# Altium footprint library Analog Devices Data Converters Digital-to-Analog Converters.PcbLib: 229 footprints (part 5 of 15)
Each footprint in its own frame and in the unit in brackets; x right, y up, seen from the top. Pads: shape width x height; smd on the part's side, far side on the other; paste and mask are expansions set on the pad; w line width, h text height; cw(c..) or ccw(c..) is an arc to the next point about the centre after c.
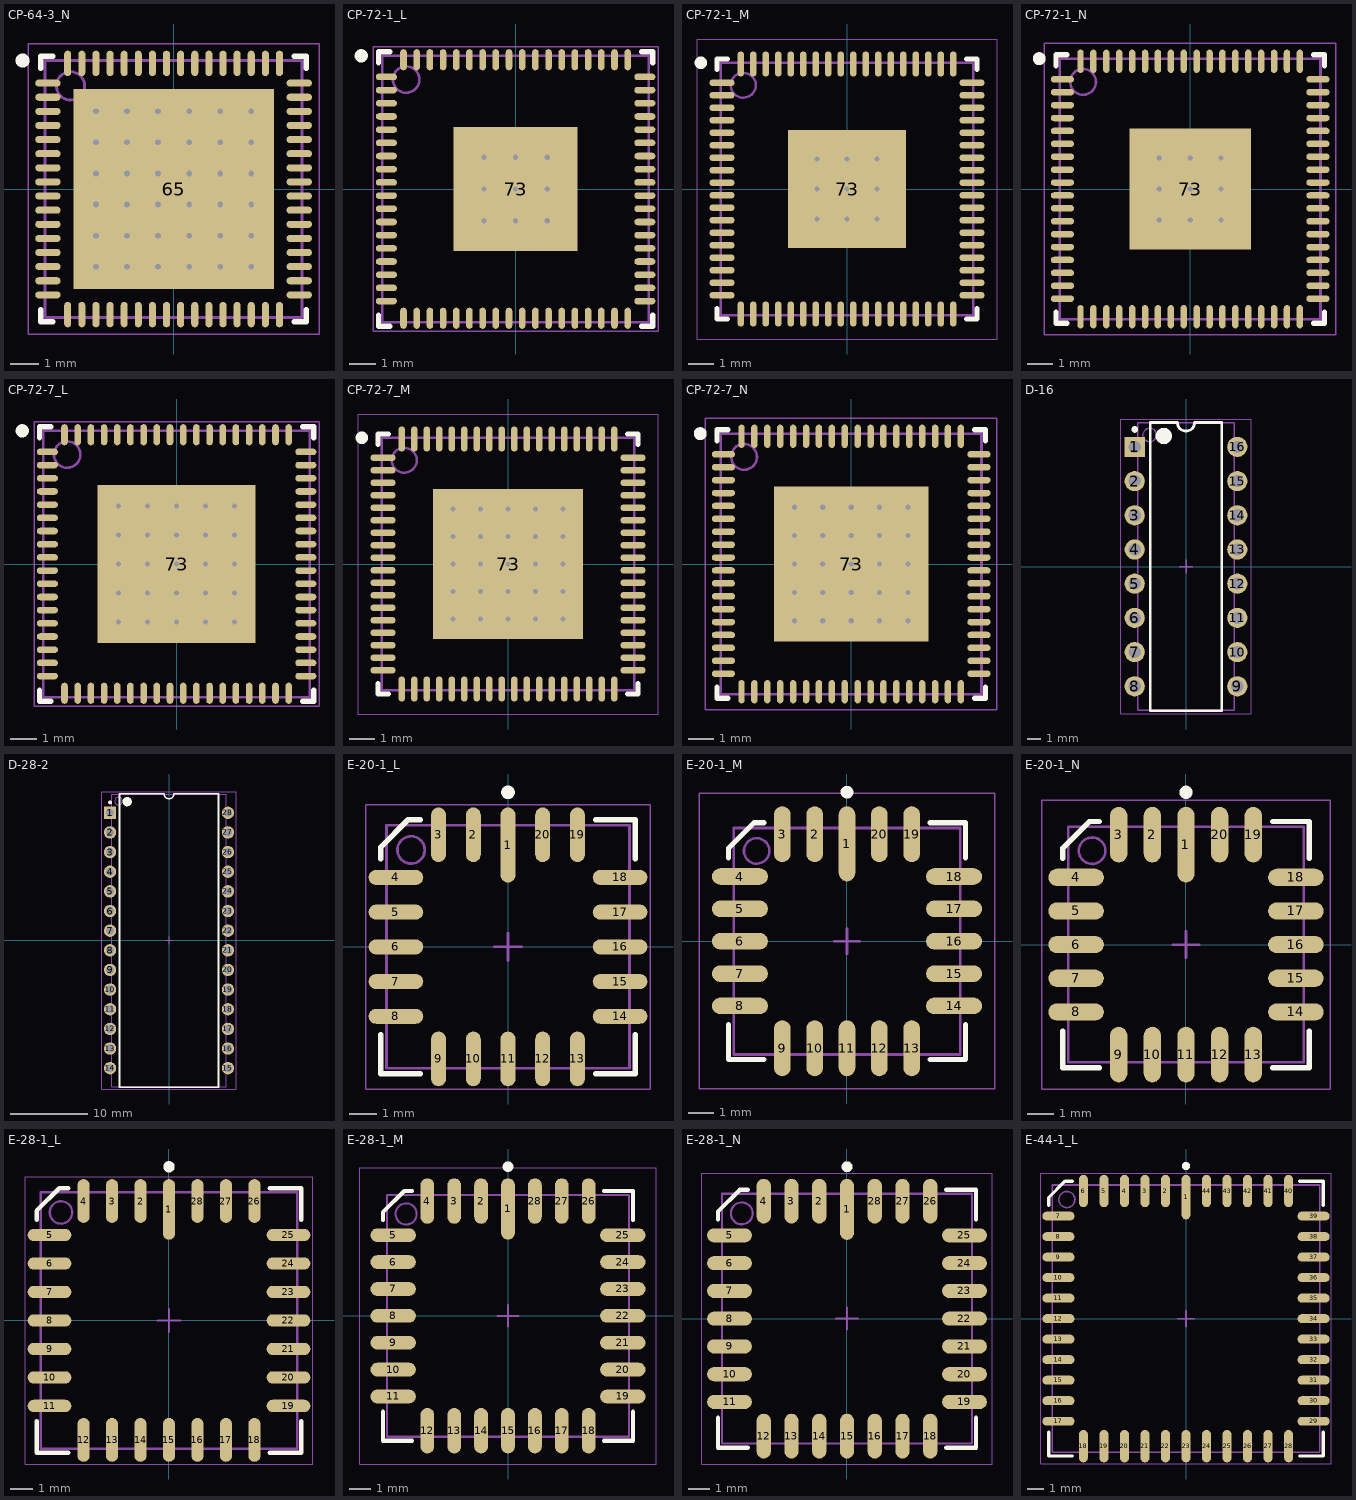
[diagram p4: the footprints below, top view; thin cyan lines are the x and y axes]

## CP-64-3_N [mm] "QFN, 64-Leads, Body 9x9mm, Pitch 0.5mm, Thermal Pad 7.1x7.1mm, IPC Medium Density"
height 1
pads (65):
  oval 0.9x0.25 smd: 1(-4.45,3.75) 2(-4.45,3.25) 3(-4.45,2.75) 4(-4.45,2.25) 5(-4.45,1.75) 6(-4.45,1.25) 7(-4.45,0.75) 8(-4.45,0.25) 9(-4.45,-0.25) 10(-4.45,-0.75) 11(-4.45,-1.25) 12(-4.45,-1.75) 13(-4.45,-2.25) 14(-4.45,-2.75) 15(-4.45,-3.25) 16(-4.45,-3.75) 33(4.45,-3.75) 34(4.45,-3.25) 35(4.45,-2.75) 36(4.45,-2.25) 37(4.45,-1.75) 38(4.45,-1.25) 39(4.45,-0.75) 40(4.45,-0.25) 41(4.45,0.25) 42(4.45,0.75) 43(4.45,1.25) 44(4.45,1.75) 45(4.45,2.25) 46(4.45,2.75) 47(4.45,3.25) 48(4.45,3.75)
  oval 0.25x0.9 smd: 17(-3.75,-4.45) 18(-3.25,-4.45) 19(-2.75,-4.45) 20(-2.25,-4.45) 21(-1.75,-4.45) 22(-1.25,-4.45) 23(-0.75,-4.45) 24(-0.25,-4.45) 25(0.25,-4.45) 26(0.75,-4.45) 27(1.25,-4.45) 28(1.75,-4.45) 29(2.25,-4.45) 30(2.75,-4.45) 31(3.25,-4.45) 32(3.75,-4.45) 49(3.75,4.45) 50(3.25,4.45) 51(2.75,4.45) 52(2.25,4.45) 53(1.75,4.45) 54(1.25,4.45) 55(0.75,4.45) 56(0.25,4.45) 57(-0.25,4.45) 58(-0.75,4.45) 59(-1.25,4.45) 60(-1.75,4.45) 61(-2.25,4.45) 62(-2.75,4.45) 63(-3.25,4.45) 64(-3.75,4.45)
  rect 7.1x7.1 smd: 65(0,0)
via -2.75,2.75 diameter 0.5 hole 0.2
via -1.65,2.75 diameter 0.5 hole 0.2
via -0.55,2.75 diameter 0.5 hole 0.2
via 0.55,2.75 diameter 0.5 hole 0.2
via 1.65,2.75 diameter 0.5 hole 0.2
via 2.75,2.75 diameter 0.5 hole 0.2
via -2.75,1.65 diameter 0.5 hole 0.2
via -1.65,1.65 diameter 0.5 hole 0.2
via -0.55,1.65 diameter 0.5 hole 0.2
via 0.55,1.65 diameter 0.5 hole 0.2
via 1.65,1.65 diameter 0.5 hole 0.2
via 2.75,1.65 diameter 0.5 hole 0.2
via -2.75,0.55 diameter 0.5 hole 0.2
via -1.65,0.55 diameter 0.5 hole 0.2
via -0.55,0.55 diameter 0.5 hole 0.2
via 0.55,0.55 diameter 0.5 hole 0.2
via 1.65,0.55 diameter 0.5 hole 0.2
via 2.75,0.55 diameter 0.5 hole 0.2
via -2.75,-0.55 diameter 0.5 hole 0.2
via -1.65,-0.55 diameter 0.5 hole 0.2
via -0.55,-0.55 diameter 0.5 hole 0.2
via 0.55,-0.55 diameter 0.5 hole 0.2
via 1.65,-0.55 diameter 0.5 hole 0.2
via 2.75,-0.55 diameter 0.5 hole 0.2
via -2.75,-1.65 diameter 0.5 hole 0.2
via -1.65,-1.65 diameter 0.5 hole 0.2
via -0.55,-1.65 diameter 0.5 hole 0.2
via 0.55,-1.65 diameter 0.5 hole 0.2
via 1.65,-1.65 diameter 0.5 hole 0.2
via 2.75,-1.65 diameter 0.5 hole 0.2
via -2.75,-2.75 diameter 0.5 hole 0.2
via -1.65,-2.75 diameter 0.5 hole 0.2
via -0.55,-2.75 diameter 0.5 hole 0.2
via 0.55,-2.75 diameter 0.5 hole 0.2
via 1.65,-2.75 diameter 0.5 hole 0.2
via 2.75,-2.75 diameter 0.5 hole 0.2
Top Overlay:
  circle w0.25: c-5.35,4.55 r0.125
  lines w0.2: -4.7,-4.275 -4.7,-4.7 -4.275,-4.7 ; -4.7,4.275 -4.7,4.7 -4.275,4.7 ; 4.275,-4.7 4.7,-4.7 4.7,-4.275 ; 4.275,4.7 4.7,4.7 4.7,4.275
Mechanical 13:
  circle w0.1: c-3.65,3.65 r0.5
  lines w0.1: -4.55,-4.55 -4.55,4.55 4.55,4.55 4.55,-4.55 -4.55,-4.55
Mechanical 15:
  lines w0.05: -5.15,-5.15 -5.15,5.15 5.15,5.15 5.15,-5.15 -5.15,-5.15
  lines w0.1: -0.5,0 0.5,0 ; 0,-0.5 0,0.5
3D body: height 1, standoff 0, extent -4.55,-4.55 4.55,4.55

## CP-72-1_L [mm] "QFN, 72-Leads, Body 10x10mm, Pitch 0.5mm, Thermal Pad 4.7x4.7mm, IPC High Density"
height 1
pads (73):
  oval 0.8x0.25 smd: 1(-4.9,4.25) 2(-4.9,3.75) 3(-4.9,3.25) 4(-4.9,2.75) 5(-4.9,2.25) 6(-4.9,1.75) 7(-4.9,1.25) 8(-4.9,0.75) 9(-4.9,0.25) 10(-4.9,-0.25) 11(-4.9,-0.75) 12(-4.9,-1.25) 13(-4.9,-1.75) 14(-4.9,-2.25) 15(-4.9,-2.75) 16(-4.9,-3.25) 17(-4.9,-3.75) 18(-4.9,-4.25) 37(4.9,-4.25) 38(4.9,-3.75) 39(4.9,-3.25) 40(4.9,-2.75) 41(4.9,-2.25) 42(4.9,-1.75) 43(4.9,-1.25) 44(4.9,-0.75) 45(4.9,-0.25) 46(4.9,0.25) 47(4.9,0.75) 48(4.9,1.25) 49(4.9,1.75) 50(4.9,2.25) 51(4.9,2.75) 52(4.9,3.25) 53(4.9,3.75) 54(4.9,4.25)
  oval 0.25x0.8 smd: 19(-4.25,-4.9) 20(-3.75,-4.9) 21(-3.25,-4.9) 22(-2.75,-4.9) 23(-2.25,-4.9) 24(-1.75,-4.9) 25(-1.25,-4.9) 26(-0.75,-4.9) 27(-0.25,-4.9) 28(0.25,-4.9) 29(0.75,-4.9) 30(1.25,-4.9) 31(1.75,-4.9) 32(2.25,-4.9) 33(2.75,-4.9) 34(3.25,-4.9) 35(3.75,-4.9) 36(4.25,-4.9) 55(4.25,4.9) 56(3.75,4.9) 57(3.25,4.9) 58(2.75,4.9) 59(2.25,4.9) 60(1.75,4.9) 61(1.25,4.9) 62(0.75,4.9) 63(0.25,4.9) 64(-0.25,4.9) 65(-0.75,4.9) 66(-1.25,4.9) 67(-1.75,4.9) 68(-2.25,4.9) 69(-2.75,4.9) 70(-3.25,4.9) 71(-3.75,4.9) 72(-4.25,4.9)
  rect 4.7x4.7 smd paste-2.35: 73(0,0)
via -1.2,-1.2 diameter 0.5 hole 0.2
via 0,-1.2 diameter 0.5 hole 0.2
via 1.2,-1.2 diameter 0.5 hole 0.2
via -1.2,0 diameter 0.5 hole 0.2
via 0,0 diameter 0.5 hole 0.2
via 1.2,0 diameter 0.5 hole 0.2
via 1.2,1.2 diameter 0.5 hole 0.2
via 0,1.2 diameter 0.5 hole 0.2
via -1.2,1.2 diameter 0.5 hole 0.2
Top Overlay:
  circle w0.25: c-5.85,5.05 r0.125
  lines w0.2: -5.2,-4.775 -5.2,-5.2 -4.775,-5.2 ; -5.2,4.775 -5.2,5.2 -4.775,5.2 ; 4.775,-5.2 5.2,-5.2 5.2,-4.775 ; 4.775,5.2 5.2,5.2 5.2,4.775
Top Paste:
  rectangle: 1.3,1.3 2.3,2.3
  rectangle: 1.3,-2.3 2.3,-1.3
  rectangle: 0.1,-2.3 1.1,-1.3
  rectangle: -1.1,-2.3 -0.1,-1.3
  rectangle: -2.3,-2.3 -1.3,-1.3
  rectangle: 0.1,1.3 1.1,2.3
  rectangle: -1.1,1.3 -0.1,2.3
  rectangle: 1.3,0.1 2.3,1.1
  region: 2.3,-1.1 2.3,-0.1 1.3,-0.1 1.3,-1.1
  rectangle: -2.3,0.1 -1.3,1.1
  region: -1.3,-1.1 -1.3,-0.1 -2.3,-0.1 -2.3,-1.1
  region: -0.1,-1.1 -0.1,-0.1 -1.1,-0.1 -1.1,-1.1
  region: 1.1,-0.1 0.1,-0.1 0.1,-1.1 1.1,-1.1
  region: 1.1,1.1 0.1,1.1 0.1,0.1 1.1,0.1
  rectangle: -2.3,1.3 -1.3,2.3
  rectangle: -1.1,0.1 -0.1,1.1
Mechanical 13:
  circle w0.1: c-4.15,4.15 r0.5
  lines w0.1: -5.05,-5.05 5.05,-5.05 5.05,5.05 -5.05,5.05 -5.05,-5.05
Mechanical 15:
  lines w0.05: -5.4,-5.4 5.4,-5.4 5.4,5.4 -5.4,5.4 -5.4,-5.4
  lines w0.1: -0.5,0 0.5,0 ; 0,-0.5 0,0.5
3D body: height 1, standoff 0, extent -5.05,-5.05 5.05,5.05

## CP-72-1_M [mm] "QFN, 72-Leads, Body 10x10mm, Pitch 0.5mm, Thermal Pad 4.7x4.7mm, IPC Low Density"
height 1
pads (73):
  oval 1x0.25 smd: 1(-5,4.25) 2(-5,3.75) 3(-5,3.25) 4(-5,2.75) 5(-5,2.25) 6(-5,1.75) 7(-5,1.25) 8(-5,0.75) 9(-5,0.25) 10(-5,-0.25) 11(-5,-0.75) 12(-5,-1.25) 13(-5,-1.75) 14(-5,-2.25) 15(-5,-2.75) 16(-5,-3.25) 17(-5,-3.75) 18(-5,-4.25) 37(5,-4.25) 38(5,-3.75) 39(5,-3.25) 40(5,-2.75) 41(5,-2.25) 42(5,-1.75) 43(5,-1.25) 44(5,-0.75) 45(5,-0.25) 46(5,0.25) 47(5,0.75) 48(5,1.25) 49(5,1.75) 50(5,2.25) 51(5,2.75) 52(5,3.25) 53(5,3.75) 54(5,4.25)
  oval 0.25x1 smd: 19(-4.25,-5) 20(-3.75,-5) 21(-3.25,-5) 22(-2.75,-5) 23(-2.25,-5) 24(-1.75,-5) 25(-1.25,-5) 26(-0.75,-5) 27(-0.25,-5) 28(0.25,-5) 29(0.75,-5) 30(1.25,-5) 31(1.75,-5) 32(2.25,-5) 33(2.75,-5) 34(3.25,-5) 35(3.75,-5) 36(4.25,-5) 55(4.25,5) 56(3.75,5) 57(3.25,5) 58(2.75,5) 59(2.25,5) 60(1.75,5) 61(1.25,5) 62(0.75,5) 63(0.25,5) 64(-0.25,5) 65(-0.75,5) 66(-1.25,5) 67(-1.75,5) 68(-2.25,5) 69(-2.75,5) 70(-3.25,5) 71(-3.75,5) 72(-4.25,5)
  rect 4.7x4.7 smd paste-2.35: 73(0,0)
via -1.2,-1.2 diameter 0.5 hole 0.2
via 0,-1.2 diameter 0.5 hole 0.2
via 1.2,-1.2 diameter 0.5 hole 0.2
via -1.2,0 diameter 0.5 hole 0.2
via 0,0 diameter 0.5 hole 0.2
via 1.2,0 diameter 0.5 hole 0.2
via 1.2,1.2 diameter 0.5 hole 0.2
via 0,1.2 diameter 0.5 hole 0.2
via -1.2,1.2 diameter 0.5 hole 0.2
Top Overlay:
  circle w0.25: c-5.85,5.05 r0.125
  lines w0.2: -5.2,-4.775 -5.2,-5.2 -4.775,-5.2 ; -5.2,4.775 -5.2,5.2 -4.775,5.2 ; 4.775,-5.2 5.2,-5.2 5.2,-4.775 ; 4.775,5.2 5.2,5.2 5.2,4.775
Top Paste:
  rectangle: -1.1,0.1 -0.1,1.1
  rectangle: -2.3,1.3 -1.3,2.3
  region: 1.1,1.1 0.1,1.1 0.1,0.1 1.1,0.1
  region: 1.1,-0.1 0.1,-0.1 0.1,-1.1 1.1,-1.1
  region: -0.1,-1.1 -0.1,-0.1 -1.1,-0.1 -1.1,-1.1
  region: -1.3,-1.1 -1.3,-0.1 -2.3,-0.1 -2.3,-1.1
  rectangle: -2.3,0.1 -1.3,1.1
  region: 2.3,-1.1 2.3,-0.1 1.3,-0.1 1.3,-1.1
  rectangle: 1.3,0.1 2.3,1.1
  rectangle: -1.1,1.3 -0.1,2.3
  rectangle: 0.1,1.3 1.1,2.3
  rectangle: -2.3,-2.3 -1.3,-1.3
  rectangle: -1.1,-2.3 -0.1,-1.3
  rectangle: 0.1,-2.3 1.1,-1.3
  rectangle: 1.3,-2.3 2.3,-1.3
  rectangle: 1.3,1.3 2.3,2.3
Mechanical 13:
  circle w0.1: c-4.15,4.15 r0.5
  lines w0.1: -5.05,-5.05 5.05,-5.05 5.05,5.05 -5.05,5.05 -5.05,-5.05
Mechanical 15:
  lines w0.05: -6,-6 6,-6 6,6 -6,6 -6,-6
  lines w0.1: -0.5,0 0.5,0 ; 0,-0.5 0,0.5
3D body: height 1, standoff 0, extent -5.05,-5.05 5.05,5.05

## CP-72-1_N [mm] "QFN, 72-Leads, Body 10x10mm, Pitch 0.5mm, Thermal Pad 4.7x4.7mm, IPC Medium Density"
height 1
pads (73):
  oval 0.9x0.25 smd: 1(-4.95,4.25) 2(-4.95,3.75) 3(-4.95,3.25) 4(-4.95,2.75) 5(-4.95,2.25) 6(-4.95,1.75) 7(-4.95,1.25) 8(-4.95,0.75) 9(-4.95,0.25) 10(-4.95,-0.25) 11(-4.95,-0.75) 12(-4.95,-1.25) 13(-4.95,-1.75) 14(-4.95,-2.25) 15(-4.95,-2.75) 16(-4.95,-3.25) 17(-4.95,-3.75) 18(-4.95,-4.25) 37(4.95,-4.25) 38(4.95,-3.75) 39(4.95,-3.25) 40(4.95,-2.75) 41(4.95,-2.25) 42(4.95,-1.75) 43(4.95,-1.25) 44(4.95,-0.75) 45(4.95,-0.25) 46(4.95,0.25) 47(4.95,0.75) 48(4.95,1.25) 49(4.95,1.75) 50(4.95,2.25) 51(4.95,2.75) 52(4.95,3.25) 53(4.95,3.75) 54(4.95,4.25)
  oval 0.25x0.9 smd: 19(-4.25,-4.95) 20(-3.75,-4.95) 21(-3.25,-4.95) 22(-2.75,-4.95) 23(-2.25,-4.95) 24(-1.75,-4.95) 25(-1.25,-4.95) 26(-0.75,-4.95) 27(-0.25,-4.95) 28(0.25,-4.95) 29(0.75,-4.95) 30(1.25,-4.95) 31(1.75,-4.95) 32(2.25,-4.95) 33(2.75,-4.95) 34(3.25,-4.95) 35(3.75,-4.95) 36(4.25,-4.95) 55(4.25,4.95) 56(3.75,4.95) 57(3.25,4.95) 58(2.75,4.95) 59(2.25,4.95) 60(1.75,4.95) 61(1.25,4.95) 62(0.75,4.95) 63(0.25,4.95) 64(-0.25,4.95) 65(-0.75,4.95) 66(-1.25,4.95) 67(-1.75,4.95) 68(-2.25,4.95) 69(-2.75,4.95) 70(-3.25,4.95) 71(-3.75,4.95) 72(-4.25,4.95)
  rect 4.7x4.7 smd paste-2.35: 73(0,0)
via -1.2,1.2 diameter 0.5 hole 0.2
via 0,1.2 diameter 0.5 hole 0.2
via 1.2,1.2 diameter 0.5 hole 0.2
via 1.2,0 diameter 0.5 hole 0.2
via 0,0 diameter 0.5 hole 0.2
via -1.2,0 diameter 0.5 hole 0.2
via 1.2,-1.2 diameter 0.5 hole 0.2
via 0,-1.2 diameter 0.5 hole 0.2
via -1.2,-1.2 diameter 0.5 hole 0.2
Top Overlay:
  circle w0.25: c-5.85,5.05 r0.125
  lines w0.2: -5.2,-4.775 -5.2,-5.2 -4.775,-5.2 ; -5.2,4.775 -5.2,5.2 -4.775,5.2 ; 4.775,-5.2 5.2,-5.2 5.2,-4.775 ; 4.775,5.2 5.2,5.2 5.2,4.775
Top Paste:
  rectangle: -1.1,0.1 -0.1,1.1
  rectangle: -2.3,1.3 -1.3,2.3
  region: 1.1,1.1 0.1,1.1 0.1,0.1 1.1,0.1
  region: 1.1,-0.1 0.1,-0.1 0.1,-1.1 1.1,-1.1
  region: -0.1,-1.1 -0.1,-0.1 -1.1,-0.1 -1.1,-1.1
  region: -1.3,-1.1 -1.3,-0.1 -2.3,-0.1 -2.3,-1.1
  rectangle: -2.3,0.1 -1.3,1.1
  region: 2.3,-1.1 2.3,-0.1 1.3,-0.1 1.3,-1.1
  rectangle: 1.3,0.1 2.3,1.1
  rectangle: -1.1,1.3 -0.1,2.3
  rectangle: 0.1,1.3 1.1,2.3
  rectangle: -2.3,-2.3 -1.3,-1.3
  rectangle: -1.1,-2.3 -0.1,-1.3
  rectangle: 0.1,-2.3 1.1,-1.3
  rectangle: 1.3,-2.3 2.3,-1.3
  rectangle: 1.3,1.3 2.3,2.3
Mechanical 13:
  circle w0.1: c-4.15,4.15 r0.5
  lines w0.1: -5.05,-5.05 -5.05,5.05 5.05,5.05 5.05,-5.05 -5.05,-5.05
Mechanical 15:
  lines w0.05: -5.65,-5.65 -5.65,5.65 5.65,5.65 5.65,-5.65 -5.65,-5.65
  lines w0.1: -0.5,0 0.5,0 ; 0,-0.5 0,0.5
3D body: height 1, standoff 0, extent -5.05,-5.05 5.05,5.05

## CP-72-7_L [mm] "QFN, 72-Leads, Body 10x10mm, Pitch 0.5mm, Thermal Pad 6x6mm, IPC High Density"
height 1
pads (73):
  oval 0.8x0.25 smd: 1(-4.9,4.25) 2(-4.9,3.75) 3(-4.9,3.25) 4(-4.9,2.75) 5(-4.9,2.25) 6(-4.9,1.75) 7(-4.9,1.25) 8(-4.9,0.75) 9(-4.9,0.25) 10(-4.9,-0.25) 11(-4.9,-0.75) 12(-4.9,-1.25) 13(-4.9,-1.75) 14(-4.9,-2.25) 15(-4.9,-2.75) 16(-4.9,-3.25) 17(-4.9,-3.75) 18(-4.9,-4.25) 37(4.9,-4.25) 38(4.9,-3.75) 39(4.9,-3.25) 40(4.9,-2.75) 41(4.9,-2.25) 42(4.9,-1.75) 43(4.9,-1.25) 44(4.9,-0.75) 45(4.9,-0.25) 46(4.9,0.25) 47(4.9,0.75) 48(4.9,1.25) 49(4.9,1.75) 50(4.9,2.25) 51(4.9,2.75) 52(4.9,3.25) 53(4.9,3.75) 54(4.9,4.25)
  oval 0.25x0.8 smd: 19(-4.25,-4.9) 20(-3.75,-4.9) 21(-3.25,-4.9) 22(-2.75,-4.9) 23(-2.25,-4.9) 24(-1.75,-4.9) 25(-1.25,-4.9) 26(-0.75,-4.9) 27(-0.25,-4.9) 28(0.25,-4.9) 29(0.75,-4.9) 30(1.25,-4.9) 31(1.75,-4.9) 32(2.25,-4.9) 33(2.75,-4.9) 34(3.25,-4.9) 35(3.75,-4.9) 36(4.25,-4.9) 55(4.25,4.9) 56(3.75,4.9) 57(3.25,4.9) 58(2.75,4.9) 59(2.25,4.9) 60(1.75,4.9) 61(1.25,4.9) 62(0.75,4.9) 63(0.25,4.9) 64(-0.25,4.9) 65(-0.75,4.9) 66(-1.25,4.9) 67(-1.75,4.9) 68(-2.25,4.9) 69(-2.75,4.9) 70(-3.25,4.9) 71(-3.75,4.9) 72(-4.25,4.9)
  rect 6x6 smd: 73(0,0)
via 2.2,-2.2 diameter 0.5 hole 0.2
via 1.1,-2.2 diameter 0.5 hole 0.2
via 0,-2.2 diameter 0.5 hole 0.2
via -1.1,-2.2 diameter 0.5 hole 0.2
via -2.2,-2.2 diameter 0.5 hole 0.2
via 2.2,-1.1 diameter 0.5 hole 0.2
via 1.1,-1.1 diameter 0.5 hole 0.2
via 0,-1.1 diameter 0.5 hole 0.2
via -1.1,-1.1 diameter 0.5 hole 0.2
via -2.2,-1.1 diameter 0.5 hole 0.2
via 2.2,0 diameter 0.5 hole 0.2
via 1.1,0 diameter 0.5 hole 0.2
via 0,0 diameter 0.5 hole 0.2
via -1.1,0 diameter 0.5 hole 0.2
via -2.2,0 diameter 0.5 hole 0.2
via 2.2,1.1 diameter 0.5 hole 0.2
via 1.1,1.1 diameter 0.5 hole 0.2
via 0,1.1 diameter 0.5 hole 0.2
via -1.1,1.1 diameter 0.5 hole 0.2
via -2.2,1.1 diameter 0.5 hole 0.2
via 2.2,2.2 diameter 0.5 hole 0.2
via 1.1,2.2 diameter 0.5 hole 0.2
via 0,2.2 diameter 0.5 hole 0.2
via -1.1,2.2 diameter 0.5 hole 0.2
via -2.2,2.2 diameter 0.5 hole 0.2
Top Overlay:
  circle w0.25: c-5.85,5.05 r0.125
  lines w0.2: -5.2,-4.775 -5.2,-5.2 -4.775,-5.2 ; -5.2,4.775 -5.2,5.2 -4.775,5.2 ; 4.775,-5.2 5.2,-5.2 5.2,-4.775 ; 4.775,5.2 5.2,5.2 5.2,4.775
Mechanical 13:
  circle w0.1: c-4.15,4.15 r0.5
  lines w0.1: -5.05,-5.05 5.05,-5.05 5.05,5.05 -5.05,5.05 -5.05,-5.05
Mechanical 15:
  lines w0.05: -5.4,-5.4 5.4,-5.4 5.4,5.4 -5.4,5.4 -5.4,-5.4
  lines w0.1: -0.5,0 0.5,0 ; 0,-0.5 0,0.5
3D body: height 1, standoff 0, extent -5.05,-5.05 5.05,5.05

## CP-72-7_M [mm] "QFN, 72-Leads, Body 10x10mm, Pitch 0.5mm, Thermal Pad 6x6mm, IPC Low Density"
height 1
pads (73):
  oval 1x0.25 smd: 1(-5,4.25) 2(-5,3.75) 3(-5,3.25) 4(-5,2.75) 5(-5,2.25) 6(-5,1.75) 7(-5,1.25) 8(-5,0.75) 9(-5,0.25) 10(-5,-0.25) 11(-5,-0.75) 12(-5,-1.25) 13(-5,-1.75) 14(-5,-2.25) 15(-5,-2.75) 16(-5,-3.25) 17(-5,-3.75) 18(-5,-4.25) 37(5,-4.25) 38(5,-3.75) 39(5,-3.25) 40(5,-2.75) 41(5,-2.25) 42(5,-1.75) 43(5,-1.25) 44(5,-0.75) 45(5,-0.25) 46(5,0.25) 47(5,0.75) 48(5,1.25) 49(5,1.75) 50(5,2.25) 51(5,2.75) 52(5,3.25) 53(5,3.75) 54(5,4.25)
  oval 0.25x1 smd: 19(-4.25,-5) 20(-3.75,-5) 21(-3.25,-5) 22(-2.75,-5) 23(-2.25,-5) 24(-1.75,-5) 25(-1.25,-5) 26(-0.75,-5) 27(-0.25,-5) 28(0.25,-5) 29(0.75,-5) 30(1.25,-5) 31(1.75,-5) 32(2.25,-5) 33(2.75,-5) 34(3.25,-5) 35(3.75,-5) 36(4.25,-5) 55(4.25,5) 56(3.75,5) 57(3.25,5) 58(2.75,5) 59(2.25,5) 60(1.75,5) 61(1.25,5) 62(0.75,5) 63(0.25,5) 64(-0.25,5) 65(-0.75,5) 66(-1.25,5) 67(-1.75,5) 68(-2.25,5) 69(-2.75,5) 70(-3.25,5) 71(-3.75,5) 72(-4.25,5)
  rect 6x6 smd: 73(0,0)
via -2.2,2.2 diameter 0.5 hole 0.2
via -1.1,2.2 diameter 0.5 hole 0.2
via 0,2.2 diameter 0.5 hole 0.2
via 1.1,2.2 diameter 0.5 hole 0.2
via 2.2,2.2 diameter 0.5 hole 0.2
via -2.2,1.1 diameter 0.5 hole 0.2
via -1.1,1.1 diameter 0.5 hole 0.2
via 0,1.1 diameter 0.5 hole 0.2
via 1.1,1.1 diameter 0.5 hole 0.2
via 2.2,1.1 diameter 0.5 hole 0.2
via -2.2,0 diameter 0.5 hole 0.2
via -1.1,0 diameter 0.5 hole 0.2
via 0,0 diameter 0.5 hole 0.2
via 1.1,0 diameter 0.5 hole 0.2
via 2.2,0 diameter 0.5 hole 0.2
via -2.2,-1.1 diameter 0.5 hole 0.2
via -1.1,-1.1 diameter 0.5 hole 0.2
via 0,-1.1 diameter 0.5 hole 0.2
via 1.1,-1.1 diameter 0.5 hole 0.2
via 2.2,-1.1 diameter 0.5 hole 0.2
via -2.2,-2.2 diameter 0.5 hole 0.2
via -1.1,-2.2 diameter 0.5 hole 0.2
via 0,-2.2 diameter 0.5 hole 0.2
via 1.1,-2.2 diameter 0.5 hole 0.2
via 2.2,-2.2 diameter 0.5 hole 0.2
Top Overlay:
  circle w0.25: c-5.85,5.05 r0.125
  lines w0.2: -5.2,-4.775 -5.2,-5.2 -4.775,-5.2 ; -5.2,4.775 -5.2,5.2 -4.775,5.2 ; 4.775,-5.2 5.2,-5.2 5.2,-4.775 ; 4.775,5.2 5.2,5.2 5.2,4.775
Mechanical 13:
  circle w0.1: c-4.15,4.15 r0.5
  lines w0.1: -5.05,-5.05 -5.05,5.05 5.05,5.05 5.05,-5.05 -5.05,-5.05
Mechanical 15:
  lines w0.05: -6,-6 -6,6 6,6 6,-6 -6,-6
  lines w0.1: -0.5,0 0.5,0 ; 0,-0.5 0,0.5
3D body: height 1, standoff 0, extent -5.05,-5.05 5.05,5.05

## CP-72-7_N [mm] "QFN, 72-Leads, Body 10x10mm, Pitch 0.5mm, Thermal Pad 6x6mm, IPC Medium Density"
height 1
pads (73):
  oval 0.9x0.25 smd: 1(-4.95,4.25) 2(-4.95,3.75) 3(-4.95,3.25) 4(-4.95,2.75) 5(-4.95,2.25) 6(-4.95,1.75) 7(-4.95,1.25) 8(-4.95,0.75) 9(-4.95,0.25) 10(-4.95,-0.25) 11(-4.95,-0.75) 12(-4.95,-1.25) 13(-4.95,-1.75) 14(-4.95,-2.25) 15(-4.95,-2.75) 16(-4.95,-3.25) 17(-4.95,-3.75) 18(-4.95,-4.25) 37(4.95,-4.25) 38(4.95,-3.75) 39(4.95,-3.25) 40(4.95,-2.75) 41(4.95,-2.25) 42(4.95,-1.75) 43(4.95,-1.25) 44(4.95,-0.75) 45(4.95,-0.25) 46(4.95,0.25) 47(4.95,0.75) 48(4.95,1.25) 49(4.95,1.75) 50(4.95,2.25) 51(4.95,2.75) 52(4.95,3.25) 53(4.95,3.75) 54(4.95,4.25)
  oval 0.25x0.9 smd: 19(-4.25,-4.95) 20(-3.75,-4.95) 21(-3.25,-4.95) 22(-2.75,-4.95) 23(-2.25,-4.95) 24(-1.75,-4.95) 25(-1.25,-4.95) 26(-0.75,-4.95) 27(-0.25,-4.95) 28(0.25,-4.95) 29(0.75,-4.95) 30(1.25,-4.95) 31(1.75,-4.95) 32(2.25,-4.95) 33(2.75,-4.95) 34(3.25,-4.95) 35(3.75,-4.95) 36(4.25,-4.95) 55(4.25,4.95) 56(3.75,4.95) 57(3.25,4.95) 58(2.75,4.95) 59(2.25,4.95) 60(1.75,4.95) 61(1.25,4.95) 62(0.75,4.95) 63(0.25,4.95) 64(-0.25,4.95) 65(-0.75,4.95) 66(-1.25,4.95) 67(-1.75,4.95) 68(-2.25,4.95) 69(-2.75,4.95) 70(-3.25,4.95) 71(-3.75,4.95) 72(-4.25,4.95)
  rect 6x6 smd: 73(0,0)
via -2.2,2.2 diameter 0.5 hole 0.2
via -1.1,2.2 diameter 0.5 hole 0.2
via 0,2.2 diameter 0.5 hole 0.2
via 1.1,2.2 diameter 0.5 hole 0.2
via 2.2,2.2 diameter 0.5 hole 0.2
via -2.2,1.1 diameter 0.5 hole 0.2
via -1.1,1.1 diameter 0.5 hole 0.2
via 0,1.1 diameter 0.5 hole 0.2
via 1.1,1.1 diameter 0.5 hole 0.2
via 2.2,1.1 diameter 0.5 hole 0.2
via -2.2,0 diameter 0.5 hole 0.2
via -1.1,0 diameter 0.5 hole 0.2
via 0,0 diameter 0.5 hole 0.2
via 1.1,0 diameter 0.5 hole 0.2
via 2.2,0 diameter 0.5 hole 0.2
via -2.2,-1.1 diameter 0.5 hole 0.2
via -1.1,-1.1 diameter 0.5 hole 0.2
via 0,-1.1 diameter 0.5 hole 0.2
via 1.1,-1.1 diameter 0.5 hole 0.2
via 2.2,-1.1 diameter 0.5 hole 0.2
via -2.2,-2.2 diameter 0.5 hole 0.2
via -1.1,-2.2 diameter 0.5 hole 0.2
via 0,-2.2 diameter 0.5 hole 0.2
via 1.1,-2.2 diameter 0.5 hole 0.2
via 2.2,-2.2 diameter 0.5 hole 0.2
Top Overlay:
  circle w0.25: c-5.85,5.05 r0.125
  lines w0.2: -5.2,-4.775 -5.2,-5.2 -4.775,-5.2 ; -5.2,4.775 -5.2,5.2 -4.775,5.2 ; 4.775,-5.2 5.2,-5.2 5.2,-4.775 ; 4.775,5.2 5.2,5.2 5.2,4.775
Mechanical 13:
  circle w0.1: c-4.15,4.15 r0.5
  lines w0.1: -5.05,-5.05 -5.05,5.05 5.05,5.05 5.05,-5.05 -5.05,-5.05
Mechanical 15:
  lines w0.05: -5.65,-5.65 -5.65,5.65 5.65,5.65 5.65,-5.65 -5.65,-5.65
  lines w0.1: -0.5,0 0.5,0 ; 0,-0.5 0,0.5
3D body: height 1, standoff 0, extent -5.05,-5.05 5.05,5.05

## D-16 [mm] "DIP, 16-Leads, Row Spacing 7.62mm, Pitch 2.54mm, Body 21.3x6.7mm"
height 5.08
pads (16):
  rect 1.5x1.5 hole 0.9: 1(-3.81,8.89)
  round 1.5 hole 0.9: 2(-3.81,6.35) 3(-3.81,3.81) 4(-3.81,1.27) 5(-3.81,-1.27) 6(-3.81,-3.81) 7(-3.81,-6.35) 8(-3.81,-8.89) 9(3.81,-8.89) 10(3.81,-6.35) 11(3.81,-3.81) 12(3.81,-1.27) 13(3.81,1.27) 14(3.81,3.81) 15(3.81,6.35) 16(3.81,8.89)
Top Overlay:
  circle w0.6: c-1.65,9.7 r0.3
  circle w0.25: c-3.81,10.19 r0.125
  lines w0.2: -2.65,-10.7 2.65,-10.7 2.65,10.7 0.635,10.7 cw(c0,10.7) -0.635,10.7 -2.65,10.7 -2.65,-10.7
Mechanical 13:
  circle w0.1: c-2.7,9.775 r0.5
  lines w0.1: -3.6,-10.675 3.6,-10.675 3.6,10.675 -3.6,10.675 -3.6,-10.675
Mechanical 15:
  lines w0.05: -4.85,-10.95 4.85,-10.95 4.85,10.95 -4.85,10.95 -4.85,-10.95
  lines w0.1: -0.5,0 0.5,0 ; 0,-0.5 0,0.5
3D body: height 5.08, standoff 0.38, extent -3.6,-10.675 3.6,10.675

## D-28-2 [mm] "DIP, 28-Leads, Row Spacing 15.24mm, Pitch 2.54mm, Body 37.2x14.1mm"
height 3.68
pads (28):
  rect 1.6x1.6 hole 1: 1(-7.62,16.51)
  round 1.6 hole 1: 2(-7.62,13.97) 3(-7.62,11.43) 4(-7.62,8.89) 5(-7.62,6.35) 6(-7.62,3.81) 7(-7.62,1.27) 8(-7.62,-1.27) 9(-7.62,-3.81) 10(-7.62,-6.35) 11(-7.62,-8.89) 12(-7.62,-11.43) 13(-7.62,-13.97) 14(-7.62,-16.51) 15(7.62,-16.51) 16(7.62,-13.97) 17(7.62,-11.43) 18(7.62,-8.89) 19(7.62,-6.35) 20(7.62,-3.81) 21(7.62,-1.27) 22(7.62,1.27) 23(7.62,3.81) 24(7.62,6.35) 25(7.62,8.89) 26(7.62,11.43) 27(7.62,13.97) 28(7.62,16.51)
Top Overlay:
  circle w0.6: c-5.4,17.95 r0.3
  circle w0.25: c-7.62,17.86 r0.125
  lines w0.2: -6.4,-18.95 6.4,-18.95 6.4,18.95 0.635,18.95 cw(c0,18.95) -0.635,18.95 -6.4,18.95 -6.4,-18.95
Mechanical 13:
  circle w0.1: c-6.525,18.025 r0.5
  lines w0.1: -7.425,-18.925 7.425,-18.925 7.425,18.925 -7.425,18.925 -7.425,-18.925
Mechanical 15:
  lines w0.05: -8.7,-19.2 8.7,-19.2 8.7,19.2 -8.7,19.2 -8.7,-19.2
  lines w0.1: -0.5,0 0.5,0 ; 0,-0.5 0,0.5
3D body: height 3.68, standoff 0.38, extent -7.425,-18.925 7.425,18.925

## E-20-1_L [mm] "Leadless Chip Carrier, 20-Leads, Body 8.9x8.9mm, Pitch 1.27mm, IPC High Density"
height 2.54
pads (20):
  oval 0.55x2.75 smd: 1(0,3.725)
  oval 0.55x2 smd: 2(-1.27,4.1) 3(-2.54,4.1) 9(-2.54,-4.1) 10(-1.27,-4.1) 11(0,-4.1) 12(1.27,-4.1) 13(2.54,-4.1) 19(2.54,4.1) 20(1.27,4.1)
  oval 2x0.55 smd: 4(-4.1,2.54) 5(-4.1,1.27) 6(-4.1,0) 7(-4.1,-1.27) 8(-4.1,-2.54) 14(4.1,-2.54) 15(4.1,-1.27) 16(4.1,0) 17(4.1,1.27) 18(4.1,2.54)
Top Overlay:
  circle w0.25: c0,5.65 r0.125
  lines w0.2: -4.65,-3.215 -4.65,-4.65 -3.215,-4.65 ; -4.65,3.215 -4.65,3.65 -3.65,4.65 -3.215,4.65 ; 3.215,-4.65 4.65,-4.65 4.65,-3.215 ; 3.215,4.65 4.65,4.65 4.65,3.215
Mechanical 13:
  circle w0.1: c-3.545,3.545 r0.5
  lines w0.1: -4.445,-4.445 4.445,-4.445 4.445,4.445 -4.445,4.445 -4.445,-4.445
Mechanical 15:
  lines w0.05: -5.2,-5.2 5.2,-5.2 5.2,5.2 -5.2,5.2 -5.2,-5.2
  lines w0.1: -0.5,0 0.5,0 ; 0,-0.5 0,0.5
3D body: height 2.54, standoff 0, extent -4.445,-4.445 4.445,4.445

## E-20-1_M [mm] "Leadless Chip Carrier, 20-Leads, Body 8.9x8.9mm, Pitch 1.27mm, IPC Low Density"
height 2.54
pads (20):
  oval 0.65x2.95 smd: 1(0,3.825)
  oval 0.65x2.2 smd: 2(-1.27,4.2) 3(-2.54,4.2) 9(-2.54,-4.2) 10(-1.27,-4.2) 11(0,-4.2) 12(1.27,-4.2) 13(2.54,-4.2) 19(2.54,4.2) 20(1.27,4.2)
  oval 2.2x0.65 smd: 4(-4.2,2.54) 5(-4.2,1.27) 6(-4.2,0) 7(-4.2,-1.27) 8(-4.2,-2.54) 14(4.2,-2.54) 15(4.2,-1.27) 16(4.2,0) 17(4.2,1.27) 18(4.2,2.54)
Top Overlay:
  circle w0.25: c0,5.85 r0.125
  lines w0.2: -4.65,-3.265 -4.65,-4.65 -3.265,-4.65 ; -4.65,3.265 -4.65,3.65 -3.65,4.65 -3.265,4.65 ; 3.265,-4.65 4.65,-4.65 4.65,-3.265 ; 3.265,4.65 4.65,4.65 4.65,3.265
Mechanical 13:
  circle w0.1: c-3.545,3.545 r0.5
  lines w0.1: -4.445,-4.445 -4.445,4.445 4.445,4.445 4.445,-4.445 -4.445,-4.445
Mechanical 15:
  lines w0.05: -5.8,-5.8 -5.8,5.8 5.8,5.8 5.8,-5.8 -5.8,-5.8
  lines w0.1: -0.5,0 0.5,0 ; 0,-0.5 0,0.5
3D body: height 2.54, standoff 0, extent -4.445,-4.445 4.445,4.445

## E-20-1_N [mm] "Leadless Chip Carrier, 20-Leads, Body 8.9x8.9mm, Pitch 1.27mm, IPC Medium Density"
height 2.54
pads (20):
  oval 0.65x2.85 smd: 1(0,3.775)
  oval 0.65x2.1 smd: 2(-1.27,4.15) 3(-2.54,4.15) 9(-2.54,-4.15) 10(-1.27,-4.15) 11(0,-4.15) 12(1.27,-4.15) 13(2.54,-4.15) 19(2.54,4.15) 20(1.27,4.15)
  oval 2.1x0.65 smd: 4(-4.15,2.54) 5(-4.15,1.27) 6(-4.15,0) 7(-4.15,-1.27) 8(-4.15,-2.54) 14(4.15,-2.54) 15(4.15,-1.27) 16(4.15,0) 17(4.15,1.27) 18(4.15,2.54)
Top Overlay:
  circle w0.25: c0,5.75 r0.125
  lines w0.2: -4.65,-3.265 -4.65,-4.65 -3.265,-4.65 ; -4.65,3.265 -4.65,3.65 -3.65,4.65 -3.265,4.65 ; 3.265,-4.65 4.65,-4.65 4.65,-3.265 ; 3.265,4.65 4.65,4.65 4.65,3.265
Mechanical 13:
  circle w0.1: c-3.545,3.545 r0.5
  lines w0.1: -4.445,-4.445 -4.445,4.445 4.445,4.445 4.445,-4.445 -4.445,-4.445
Mechanical 15:
  lines w0.05: -5.45,-5.45 -5.45,5.45 5.45,5.45 5.45,-5.45 -5.45,-5.45
  lines w0.1: -0.5,0 0.5,0 ; 0,-0.5 0,0.5
3D body: height 2.54, standoff 0, extent -4.445,-4.445 4.445,4.445

## E-28-1_L [mm] "Leadless Chip Carrier, 28-Leads, Body 11.4x11.4mm, Pitch 1.27mm, IPC High Density"
height 2.54
pads (28):
  oval 0.55x2.7 smd: 1(0,4.95)
  oval 0.55x1.95 smd: 2(-1.27,5.325) 3(-2.54,5.325) 4(-3.81,5.325) 12(-3.81,-5.325) 13(-2.54,-5.325) 14(-1.27,-5.325) 15(0,-5.325) 16(1.27,-5.325) 17(2.54,-5.325) 18(3.81,-5.325) 26(3.81,5.325) 27(2.54,5.325) 28(1.27,5.325)
  oval 1.95x0.55 smd: 5(-5.325,3.81) 6(-5.325,2.54) 7(-5.325,1.27) 8(-5.325,0) 9(-5.325,-1.27) 10(-5.325,-2.54) 11(-5.325,-3.81) 19(5.325,-3.81) 20(5.325,-2.54) 21(5.325,-1.27) 22(5.325,0) 23(5.325,1.27) 24(5.325,2.54) 25(5.325,3.81)
Top Overlay:
  circle w0.25: c0,6.85 r0.125
  lines w0.2: -5.9,-4.485 -5.9,-5.9 -4.485,-5.9 ; -5.9,4.485 -5.9,4.9 -4.9,5.9 -4.485,5.9 ; 4.485,-5.9 5.9,-5.9 5.9,-4.485 ; 4.485,5.9 5.9,5.9 5.9,4.485
Mechanical 13:
  circle w0.1: c-4.815,4.815 r0.5
  lines w0.1: -5.715,-5.715 5.715,-5.715 5.715,5.715 -5.715,5.715 -5.715,-5.715
Mechanical 15:
  lines w0.05: -6.4,-6.4 6.4,-6.4 6.4,6.4 -6.4,6.4 -6.4,-6.4
  lines w0.1: -0.5,0 0.5,0 ; 0,-0.5 0,0.5
3D body: height 2.54, standoff 0, extent -5.715,-5.715 5.715,5.715

## E-28-1_M [mm] "Leadless Chip Carrier, 28-Leads, Body 11.4x11.4mm, Pitch 1.27mm, IPC Low Density"
height 2.54
pads (28):
  oval 0.65x2.9 smd: 1(0,5.05)
  oval 0.65x2.15 smd: 2(-1.27,5.425) 3(-2.54,5.425) 4(-3.81,5.425) 12(-3.81,-5.425) 13(-2.54,-5.425) 14(-1.27,-5.425) 15(0,-5.425) 16(1.27,-5.425) 17(2.54,-5.425) 18(3.81,-5.425) 26(3.81,5.425) 27(2.54,5.425) 28(1.27,5.425)
  oval 2.15x0.65 smd: 5(-5.425,3.81) 6(-5.425,2.54) 7(-5.425,1.27) 8(-5.425,0) 9(-5.425,-1.27) 10(-5.425,-2.54) 11(-5.425,-3.81) 19(5.425,-3.81) 20(5.425,-2.54) 21(5.425,-1.27) 22(5.425,0) 23(5.425,1.27) 24(5.425,2.54) 25(5.425,3.81)
Top Overlay:
  circle w0.25: c0,7.05 r0.125
  lines w0.2: -5.9,-4.535 -5.9,-5.9 -4.535,-5.9 ; -5.9,4.535 -5.9,4.9 -4.9,5.9 -4.535,5.9 ; 4.535,-5.9 5.9,-5.9 5.9,-4.535 ; 4.535,5.9 5.9,5.9 5.9,4.535
Mechanical 13:
  circle w0.1: c-4.815,4.815 r0.5
  lines w0.1: -5.715,-5.715 -5.715,5.715 5.715,5.715 5.715,-5.715 -5.715,-5.715
Mechanical 15:
  lines w0.05: -7,-7 -7,7 7,7 7,-7 -7,-7
  lines w0.1: -0.5,0 0.5,0 ; 0,-0.5 0,0.5
3D body: height 2.54, standoff 0, extent -5.715,-5.715 5.715,5.715

## E-28-1_N [mm] "Leadless Chip Carrier, 28-Leads, Body 11.4x11.4mm, Pitch 1.27mm, IPC Medium Density"
height 2.54
pads (28):
  oval 0.65x2.8 smd: 1(0,5)
  oval 0.65x2.05 smd: 2(-1.27,5.375) 3(-2.54,5.375) 4(-3.81,5.375) 12(-3.81,-5.375) 13(-2.54,-5.375) 14(-1.27,-5.375) 15(0,-5.375) 16(1.27,-5.375) 17(2.54,-5.375) 18(3.81,-5.375) 26(3.81,5.375) 27(2.54,5.375) 28(1.27,5.375)
  oval 2.05x0.65 smd: 5(-5.375,3.81) 6(-5.375,2.54) 7(-5.375,1.27) 8(-5.375,0) 9(-5.375,-1.27) 10(-5.375,-2.54) 11(-5.375,-3.81) 19(5.375,-3.81) 20(5.375,-2.54) 21(5.375,-1.27) 22(5.375,0) 23(5.375,1.27) 24(5.375,2.54) 25(5.375,3.81)
Top Overlay:
  circle w0.25: c0,6.95 r0.125
  lines w0.2: -5.9,-4.535 -5.9,-5.9 -4.535,-5.9 ; -5.9,4.535 -5.9,4.9 -4.9,5.9 -4.535,5.9 ; 4.535,-5.9 5.9,-5.9 5.9,-4.535 ; 4.535,5.9 5.9,5.9 5.9,4.535
Mechanical 13:
  circle w0.1: c-4.815,4.815 r0.5
  lines w0.1: -5.715,-5.715 -5.715,5.715 5.715,5.715 5.715,-5.715 -5.715,-5.715
Mechanical 15:
  lines w0.05: -6.65,-6.65 -6.65,6.65 6.65,6.65 6.65,-6.65 -6.65,-6.65
  lines w0.1: -0.5,0 0.5,0 ; 0,-0.5 0,0.5
3D body: height 2.54, standoff 0, extent -5.715,-5.715 5.715,5.715

## E-44-1_L [mm] "Leadless Chip Carrier, 44-Leads, Body 16.5x16.5mm, Pitch 1.27mm, IPC High Density"
height 2.54
pads (44):
  oval 0.55x2.75 smd: 1(0,7.525)
  oval 0.55x2 smd: 2(-1.27,7.9) 3(-2.54,7.9) 4(-3.81,7.9) 5(-5.08,7.9) 6(-6.35,7.9) 18(-6.35,-7.9) 19(-5.08,-7.9) 20(-3.81,-7.9) 21(-2.54,-7.9) 22(-1.27,-7.9) 23(0,-7.9) 24(1.27,-7.9) 25(2.54,-7.9) 26(3.81,-7.9) 27(5.08,-7.9) 28(6.35,-7.9) 40(6.35,7.9) 41(5.08,7.9) 42(3.81,7.9) 43(2.54,7.9) 44(1.27,7.9)
  oval 2x0.55 smd: 7(-7.9,6.35) 8(-7.9,5.08) 9(-7.9,3.81) 10(-7.9,2.54) 11(-7.9,1.27) 12(-7.9,0) 13(-7.9,-1.27) 14(-7.9,-2.54) 15(-7.9,-3.81) 16(-7.9,-5.08) 17(-7.9,-6.35) 29(7.9,-6.35) 30(7.9,-5.08) 31(7.9,-3.81) 32(7.9,-2.54) 33(7.9,-1.27) 34(7.9,0) 35(7.9,1.27) 36(7.9,2.54) 37(7.9,3.81) 38(7.9,5.08) 39(7.9,6.35)
Top Overlay:
  circle w0.25: c0,9.45 r0.125
  lines w0.2: -8.5,-7.025 -8.5,-8.5 -7.025,-8.5 ; -8.5,7.025 -8.5,7.5 -7.5,8.5 -7.025,8.5 ; 7.025,-8.5 8.5,-8.5 8.5,-7.025 ; 7.025,8.5 8.5,8.5 8.5,7.025
Mechanical 13:
  circle w0.1: c-7.375,7.375 r0.5
  lines w0.1: -8.275,-8.275 -8.275,8.275 8.275,8.275 8.275,-8.275 -8.275,-8.275
Mechanical 15:
  lines w0.05: -9,-9 -9,9 9,9 9,-9 -9,-9
  lines w0.1: -0.5,0 0.5,0 ; 0,-0.5 0,0.5
3D body: height 2.54, standoff 0, extent -8.275,-8.275 8.275,8.275